# Altium schematic symbol library ecubelib.SchLib: 9 symbols
Pins are listed as number, name and electrical type; pins without a type are passive.

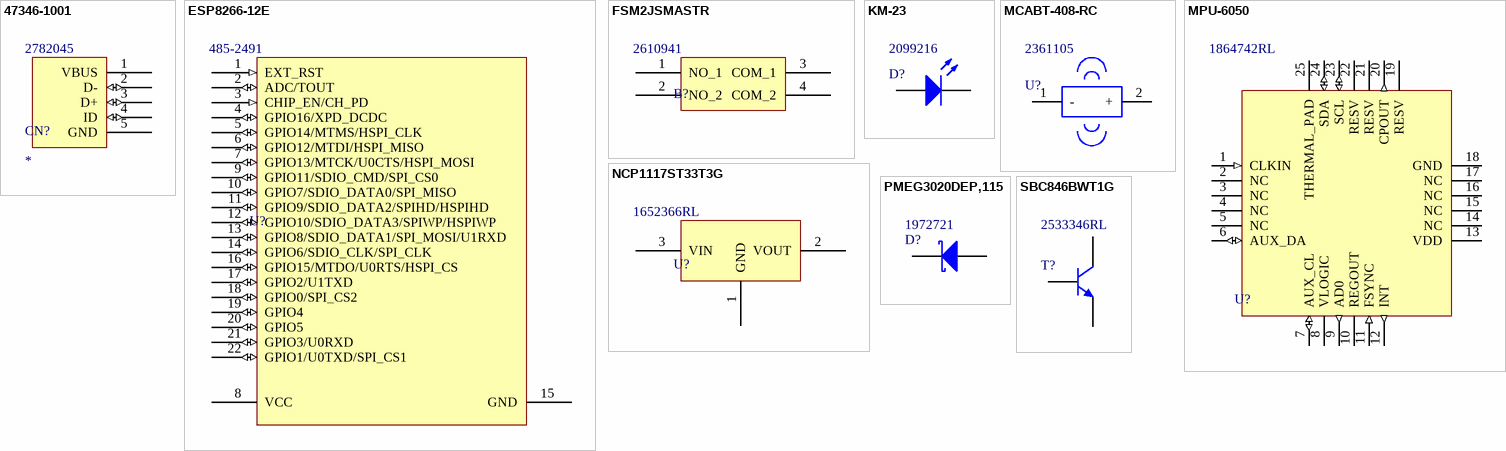
[diagram p0: symbols 47346-1001 to SBC846BWT1G]

## 47346-1001
designator CN?  Supplier Part Number 1: 2782045
MOLEX - 47346-1001 - MULTIPOLE CONNECTOR Conector USB, Micro USB Tipo B, USB 2.0 Montaje Superficial,; Description: Conn Micro USB Type B RCP 5 POS 0.65mm Solder RA SMD 5 Terminal 1 Port Embossed T/R; Number of Circuits: 5; Pitch: 0.65mm; ComponentLink1Description: Farnell; ComponentLink1URL: https://es.farnell.com/molex/47346-1001/conector-micro-usb-tipo-b-hembra/dp/2782045?st=Conector%20USB,%20Micro%20USB%20Tipo%20B; Supplier 1: Farnell; Manufacturer: Molex; Manufacturer Part Number: 47346-1001; Stock 1: 336; Pricing 1: 1=0.624, 60=0.6, 200=0.556, 500=0.532, 1000=0.503 (EUR); Mount: Surface Mount; Contact Material: Copper Alloy; Contact Plating: Gold; Housing Material: Polymer; Min Operating Temperature: -30°C; Max Operating Temperature: 85°C; Orientation: Right Angle; Termination: Solder; Length: 7.8mm; REACH SVHC: No SVHC; Halogen Free: Low Halogen
footprint 47346-1001 (USB Tipo B Montaje Superficial)
pins: 1 VBUS (power), 2 D- (io), 3 D+ (io), 4 ID (io), 5 GND (power)

## ESP8266-12E
designator U?  Supplier Part Number 1: 485-2491
Manufacturer: Adafruit Industries; Manufacturer Part Number: 2491; Description: ESP8266 SMT M - ESP-12E; Frequency: 2.4GHz; Data Rate: 72.2Mbps; Sensitivity: -91dBm; Interface: I2C,SPI,UART; Current - Receiving: 56mA; Current - Transmitting: 170mA; Supplier 1: Mouser; Stock 1: 0; Mount: Surface Mount; Case/Package: Module; Min Operating Temperature: -40°C; Max Operating Temperature: 125°C; Packaging: Bulk
footprint ESP8266-12E
pins: 1 EXT_RST (in), 2 ADC/TOUT (io), 3 CHIP_EN/CH_PD (in), 4 GPIO16/XPD_DCDC (io), 5 GPIO14/MTMS/HSPI_CLK (io), 6 GPIO12/MTDI/HSPI_MISO (io), 7 GPIO13/MTCK/U0CTS/HSPI_MOSI (io), 8 VCC (power), 9 GPIO11/SDIO_CMD/SPI_CS0 (io), 10 GPIO7/SDIO_DATA0/SPI_MISO (io), 11 GPIO9/SDIO_DATA2/SPIHD/HSPIHD (io), 12 GPIO10/SDIO_DATA3/SPIWP/HSPIWP (io), 13 GPIO8/SDIO_DATA1/SPI_MOSI/U1RXD (io), 14 GPIO6/SDIO_CLK/SPI_CLK (io), 15 GND (power), 16 GPIO15/MTDO/U0RTS/HSPI_CS (io), 17 GPIO2/U1TXD (io), 18 GPIO0/SPI_CS2 (io), 19 GPIO4 (io), 20 GPIO5 (io), 21 GPIO3/U0RXD (io), 22 GPIO1/U0TXD/SPI_CS1 (io)

## FSM2JSMASTR
designator B?  Supplier Part Number 1: 2610941
TE Connectivity - Interruptor Táctil, Montaje Superficial (SMD); Manufacturer Part Number: 1977223-4; Description: Switch Tactile OFF (ON) SPST Round Button Gull Wing 0.05A 24VDC 1000000Cycles 1.57N SMD T/R; Mechanical Life: 1000000Cycles; Actuator Material: Nylon; Throw Configuration: SPST; Voltage Rating (DC): 24V; Operating Force: 1.57N; Max Current Rating: 50mA; Actuator Length: 0.7mm; ComponentLink1Description: farnell; ComponentLink1URL: https://es.farnell.com/alcoswitch-te-connectivity/fsm2jsmastr/interruptor-t-ctil-spst-0-05a/dp/2610941?krypto=STQKwvVYAPccPvWo2qKFm%2B2gHuVF7WkaqIiu7Dm0cJ5iCIeV7DHhPViRfCOgoFsJStXtod%2BnIQ%2BYkMVEvW6iM3AuzhepTn6uOw1UVwc7VB8KUrNLl0uQiR%2Bt35da8c9%2BQU171xU6PFtEc8EnsSVD6zTrAoZNeFTntAPThe1lSw75SwgbO5cQ33JndyglwNSD%2Fmpse8Gtvc2qmuIyzAgV9svHZkncDZZX6ZXbcKP216NPBEjbrtNYbKi2SeLDw4XeR8vtbf5NJKVxMUwbBhIrG2GTfYXybkb4t0M%2BFUX2Mjpm2Pqiy7%2FaHyLXsF%2F6JqWeJ%2FtTnNjkvf4o7u918wSV9RxDYtXvBiLcNJGrHbUuu6%2BAwcACzT8Mk6xWTk1NrmLNmfrigBPTmYlqdrRkSyqTCN5s9fVyopuyy4jhDrGN6PxrQet12eg7oAfq92u%2FGproWwHxsaTab23LGvFEnuMkIb5ATL7w%2Fr2VOeHmcwkXp7E%3D&ddkey=https%3Aes-ES%2FElement14_Spain%2Fsearch; Supplier 1: Farnell; Manufacturer: TE Connectivity; Stock 1: 1514; Pricing 1: 5=0.184, 100=0.179, 250=0.173, 1000=0.168, 2500=0.162 (EUR); Mount: Surface Mount; Case/Package: SMD/SMT; Contact Material: Copper Alloy; Contact Plating: Silver; Min Operating Temperature: -40°C; Max Operating Temperature: 105°C; Packaging: Tape and Reel; Termination: Gull Wing; Max Voltage Rating (DC): 24V; Orientation: Straight; Contact Current Rating: 50mA; Type: Switch; Length: 6mm; Depth: 10mm; Radiation Hardening: No; ELV: Compliant; ComponentLink2URL: http://www.te.com/commerce/DocumentDelivery/DDEController?Action=srchrtrv&DocNm=1308111-1_SWITCHES_CORE_PROGRAM_CATALOG&DocType=Catalog+Section&DocLang=English; ComponentLink2Description: http://www.te.com/commerce/DocumentDelivery/DDEController?Action=srchrtrv&DocNm=1308111-1_SWITCHES_CORE_PROGRAM_CATALOG&DocType=Catalog+Section&DocLang=English
footprint BUTTON_SMD
pins: 1 NO_1, 2 NO_2, 3 COM_1, 4 COM_2

## KM-23
designator D?  Supplier Part Number 1: 2099216
Kingbright - LED, SOT-23; Manufacturer Part Number: KM-23ID-F; Description: KINGBRIGHT         KM-23ID-F             LED, SOT-23, Red, SMD, 20 mA, 2 V, 625 nm; Colour: Red; Lens Colour: Clear; Viewing Angle: 140°; Forward Voltage: 2V; Lens Style: Colored,Diffused,Rectangular; Luminous Intensity: 12mcd; Wavelength: 625nm; Forward Current: 20mA; Number of LEDs: 1; ComponentLink1Description: farnell -RED; ComponentLink1URL: https://es.farnell.com/kingbright/km-23id-f/led-red-sot-23-smd/dp/2099216?st=KM-23ID; ComponentLink2Description: farnell-Green; ComponentLink2URL: https://es.farnell.com/kingbright/km-23sgd-f/led-green-sot-23-smd/dp/2099217?st=KM-23; Supplier 1: Farnell; Manufacturer: Kingbright; Stock 1: 10839; Pricing 1: 5=0.118, 25=0.112, 100=0.106, 250=0.101, 500=0.0968, 1000=0.0928 (GBP); Mount: Surface Mount; Case/Package: SOT-23; Number of Pins: 3; Dominant Wavelength: 625nm; Length: 2.8mm; Height: 1mm; Width: 1.2mm; Radiation Hardening: No; REACH SVHC: No SVHC; ComponentLink3URL: http://www.farnell.com/datasheets/1563685.pdf; ComponentLink3Description: http://www.farnell.com/datasheets/1563685.pdf; ComponentLink4URL: https://www.distrelec.biz/Web/Downloads/d_/en/cuKingbright_SOT-23_SMT-LED_EN.pdf?mime=application%2Fpdf; ComponentLink4Description: https://www.distrelec.biz/Web/Downloads/d_/en/cuKingbright_SOT-23_SMT-LED_EN.pdf?mime=application%2Fpdf; ComponentLink5URL: http://uk.rs-online.com/webdocs/032f/0900766b8032f166.pdf; ComponentLink5Description: http://uk.rs-online.com/webdocs/032f/0900766b8032f166.pdf; ComponentLink6URL: http://www.produktinfo.conrad.com/datenblaetter/175000-199999/180090-da-01-en-LED_SOT23_TYP_KM_23ID_F.pdf; ComponentLink6Description: http://www.produktinfo.conrad.com/datenblaetter/175000-199999/180090-da-01-en-LED_SOT23_TYP_KM_23ID_F.pdf; ComponentLink7URL: http://www.produktinfo.conrad.com/datenblaetter/125000-149999/144223-da-01-en-SMD_Leuchtdioden_KM23ID_Sot23_rot.pdf; ComponentLink7Description: http://www.produktinfo.conrad.com/datenblaetter/125000-149999/144223-da-01-en-SMD_Leuchtdioden_KM23ID_Sot23_rot.pdf
footprint SOT-23
pins: 1 A, 3 K

## MCABT-408-RC
designator U?  Supplier Part Number 1: 2361105
ransductor, 1 V a 3 V, 85 dBA, Sirena, 70 mA; Manufacturer: Multicomp; Manufacturer Part Number: MCABT-408-RC; Description: MULTICOMP         MCABT-408-RC            SOUNDER, ELECTRO MECH, AUDIO, 1.5VP-P; Current Rating: 70mA; Self Resonant Frequency: 2.731kHz; Min Supply Voltage: 1V; Max Supply Voltage: 3V; Outside Diameter: 12mm; ComponentLink1Description: farnell; ComponentLink1URL: https://es.farnell.com/multicomp/mcabt-408-rc/ac-stico-electro-mech-audio-1/dp/2361105?krypto=Kzr7701dNdWkobLwazw2WAHmNHziskZrQMg7S%2Faf%2BaL%2F%2Bj%2FkWh1M3S1k%2FYSHSKSx0MzERa16wH8IxUPYeDKx2PmCEW9b7Qq2dWm4YJR83SHnond9nZgPFyrqEJusaoJIK60fC%2FoQdI36P39N2BQPzNsuueVDbqXwGAOKtHeDF30EVb%2FMeWA5wOoM2bNdaZFSgNjAKDp4mZigEnbiecpx7MGL6JOzzhP9BWUiYbys6ks5dt9LMNmTnpFtdjo7H2akCj%2F%2BfLNG71ArvMaoxZ0WMv4hKuovOAWfA3NHFC9HmqzoIwqKqKgSbKZowJ%2Btqn8YlCHLgv9T7vbfNqK3ZjJzUnVd%2FT%2BsNsbTS0FSkhssYu9EDD5ZGkWROWS0H93J6TpgHhXKvnZj%2BSUvRf0Y%2Bf3ZsPXOKqdIdoKAc%2FpA98XWUfDfcYNhjP%2Fdf3fuxTewHmiKE8rVjXfHvkQUwmS1KThmixSSWsU6BPdfoeHtQ48EBKM%3D&ddkey=https%3Aes-ES%2FElement14_Spain%2Fsearch; Supplier 1: Farnell; Stock 1: 1057; Pricing 1: 1=0.967, 5=0.876, 10=0.795, 20=0.738, 40=0.723, 100=0.708, 500=0.694 (EUR); Height: 7.5mm; REACH SVHC: Unknown; ComponentLink2URL: http://www.farnell.com/datasheets/1768519.pdf; ComponentLink2Description: http://www.farnell.com/datasheets/1768519.pdf
footprint MCABT-408-RC
pins: 1 -, 2 +

## MPU-6050
designator U?  Supplier Part Number 1: 1864742RL
INVENSENSE - Módulo MEMS, Giroscopio de Tres Ejes, Acelerómetro de Tres Ejes; Manufacturer: TDK InvenSense; Description: INVENSENSE   MPU-6050   MEMS Module, Tri-Axis Gyroscope, Tri-Axis Accelerometer, 2.5 V, 3.6 V, QFN, 24 Pins; Interface: I2C; Min Supply Voltage: 2.5V; Max Supply Voltage: 3.6V; Output Type: Digital; Sensitivity: 16384LSB/g; ComponentLink1Description: farnell; ComponentLink1URL: https://es.farnell.com/invensense/mpu-6050/giroscop-aceler-m-6-ejes-i2c-qfn/dp/1864742?st=MPU-6050; Supplier 1: Farnell; Manufacturer Part Number: MPU-6050; Stock 1: 0; Mount: Surface Mount; Case/Package: QFN; Number of Pins: 24; Min Operating Temperature: -40°C; Max Operating Temperature: 85°C; Package Quantity: 5000; Packaging: Cut Tape; Length: 4.1mm; Height: 0.9mm; Width: 4.1mm; REACH SVHC: No SVHC; ComponentLink2URL: http://www.farnell.com/datasheets/1788002.pdf; ComponentLink2Description: http://www.farnell.com/datasheets/1788002.pdf
footprint QFN50P400X400X95-25N
pins: 1 CLKIN (in), 2 NC, 3 NC, 4 NC, 5 NC, 6 AUX_DA (io), 7 AUX_CL (io), 8 VLOGIC (power), 9 AD0 (out), 10 REGOUT, 11 FSYNC (in), 12 INT (out), 13 VDD (power), 14 NC, 15 NC, 16 NC, 17 NC, 18 GND (power), 19 RESV, 20 CPOUT (out), 21 RESV, 22 RESV, 23 SCL (io), 24 SDA (io), 25 THERMAL_PAD

## NCP1117ST33T3G
designator U?  Supplier Part Number 1: 1652366RL
ON SEMICONDUCTOR  - Regulador de Tensión Fija LDO 3.3V 1A; Manufacturer Part Number: NCP1117ST33T3G; Description: IC REG LDO 3.3V 1A SOT223; Max Input Voltage: 20V; Number of Outputs: 1; Dropout Voltage: 1.07V; Max Supply Voltage: 15V; Min Supply Voltage: 4.75V; Min Input Voltage: 3.5V; Input Bias Current: 6mA; Quiescent Current: 10mA; Polarity: Positive; Reference Voltage: 1.25V; Accuracy: 1%; Output Type: Fixed; ComponentLink1Description: farnell; ComponentLink1URL: https://es.farnell.com/on-semiconductor/ncp1117st33t3g/ic-linear-voltage-regulator/dp/1652366?st=NCP1117ST33T3G; Supplier 1: Farnell; Manufacturer: ON Semiconductor; Stock 1: 0; Pricing 1: 150=0.196, 250=0.174, 500=0.151, 1000=0.129, 5000=0.121, 10000=0.116 (EUR); Mount: Surface Mount; Case/Package: SOT-223; Number of Pins: 3; Contact Plating: Matte,Tin; Min Operating Temperature: 0°C; Max Operating Temperature: 125°C; Output Voltage: 3.3V; Packaging: Tape and Reel; Output Current: 1A; Max Output Current: 1A; Package Quantity: 1; Nominal Output Voltage: 3.3V; Number of Regulators: 1; Min Current Limit: 1A; Min Output Voltage: 3.3V; Max Output Voltage: 3.3V; Termination: SMD/SMT; Output Voltage Accuracy: 1%; Length: 6.7mm; Height: 1.69mm; Width: 3.7mm; Radiation Hardening: No; REACH SVHC: No SVHC; Lead Free: Lead Free; Halogen Free: Halogen Free; ComponentLink2URL: http://www.onsemi.ru.com/pub/Collateral/NCP1117-D.PDF; ComponentLink2Description: http://www.onsemi.ru.com/pub/Collateral/NCP1117-D.PDF; ComponentLink3URL: http://www.farnell.com/datasheets/1726422.pdf; ComponentLink3Description: http://www.farnell.com/datasheets/1726422.pdf; ComponentLink4URL: http://www.onsemi.com/pub/Collateral/NCP1117-D.PDF; ComponentLink4Description: http://www.onsemi.com/pub/Collateral/NCP1117-D.PDF; ComponentLink5URL: https://www.verical.com/server-webapp/html/getDatasheet?partID=82718; ComponentLink5Description: https://www.verical.com/server-webapp/html/getDatasheet?partID=82718; ComponentLink6URL: http://www.farnell.com/datasheets/1748260.pdf; ComponentLink6Description: http://www.farnell.com/datasheets/1748260.pdf; ComponentLink7URL: http://www.onsemi.com/pub_link/Collateral/NCP1117-D.PDF; ComponentLink7Description: http://www.onsemi.com/pub_link/Collateral/NCP1117-D.PDF
footprint SOT-223-3
pins: 1 GND, 2 VOUT, 3 VIN

## PMEG3020DEP,115
designator D?  Supplier Part Number 1: 1972721
NEXPERIA - Rectificador Schottky, 30 V, 2 A; Manufacturer: NXP Semiconductors; Manufacturer Part Number: PMEG3020DEP,115; Description: DIODE SCHOTTKY 30V 2A SOD128; Forward Current: 2A; Max Repetitive Reverse Voltage (Vrrm): 30V; Element Configuration: Single; Forward Voltage: 520mV; Peak Reverse Current: 50uA; Peak Non-Repetitive Surge Current: 50A; Max Power Dissipation: 625mW; ComponentLink1Description: farnell; ComponentLink1URL: https://es.farnell.com/nexperia/pmeg3020dep-115/diodo-schott-rect-30v-2a-sod128/dp/1972721?st=PMEG3020DEP,115; Supplier 1: Farnell; Stock 1: 4; Pricing 1: 5=0.351, 25=0.27, 100=0.189, 250=0.167, 500=0.145, 1000=0.123, 5000=0.106 (EUR); Mount: Surface Mount; Number of Pins: 2; Min Operating Temperature: -55°C; Max Operating Temperature: 150°C; Packaging: Tape and Reel; Max Surge Current: 50A; Package Quantity: 3000; Max Reverse Leakage Current: 50uA; Average Rectified Current: 2A; Max Reverse Voltage (DC): 30V; Radiation Hardening: No; Lead Free: Lead Free; ComponentLink2URL: http://www.nxp.com/documents/data_sheet/PMEG3020DEP.pdf?ecmp=mouser; ComponentLink2Description: http://www.nxp.com/documents/data_sheet/PMEG3020DEP.pdf?ecmp=mouser; ComponentLink3URL: http://www.nxp.com/documents/data_sheet/PMEG3020DEP.pdf; ComponentLink3Description: http://www.nxp.com/documents/data_sheet/PMEG3020DEP.pdf
footprint SOD-128
pins: 1 K, 2 A

## SBC846BWT1G
designator T?  Supplier Part Number 1: 2533346RL
ON SEMICONDUCTOR - SBC846BWT1G - TRANSISTOR, BIPOL, NPN, 65V; Description: Trans GP BJT NPN 65V 0.1A Automotive 3-Pin SC-70 T/R; Max Power Dissipation: 150mW; Frequency: 100MHz; Collector Base Voltage (VCBO): 80V; Emitter Base Voltage (VEBO): 6V; Collector Emitter Saturation Voltage: 600mV; Max Collector Current: 100mA; Number of Elements: 1; Element Configuration: Single; ComponentLink1Description: farnell; ComponentLink1URL: https://es.farnell.com/on-semiconductor/sbc846bwt1g/transistor-bipolar-npn-65-v/dp/2533346?st=SBC846BWT1G; Supplier 1: Farnell; Manufacturer: ON Semiconductor; Manufacturer Part Number: SBC846BWT1G; Stock 1: 0; Pricing 1: 150=0.0932, 250=0.0803, 500=0.0675, 1000=0.0545, 5000=0.0456 (EUR); Case/Package: SC; Number of Pins: 3; Min Operating Temperature: -55°C; Max Operating Temperature: 150°C; Package Quantity: 3000; Packaging: Tape and Reel; Collector Emitter Voltage (VCEO): 65V; Polarity: NPN; Collector Emitter Breakdown Voltage: 65V; Transition Frequency: 100MHz; Max Breakdown Voltage: 65V; Power Dissipation: 150mW; Gain Bandwidth Product: 100MHz; Radiation Hardening: No; REACH SVHC: No SVHC; Lead Free: Lead Free; Halogen Free: Halogen Free; ComponentLink2URL: http://www.mouser.com/ds/2/308/BC846AWT1-D-103558.pdf; ComponentLink2Description: http://www.mouser.com/ds/2/308/BC846AWT1-D-103558.pdf; ComponentLink3URL: http://www.onsemi.com/pub/Collateral/BC846AWT1-D.PDF; ComponentLink3Description: http://www.onsemi.com/pub/Collateral/BC846AWT1-D.PDF
footprint SOT-323
pins: 1 B, 2 E, 3 C